# Altium schematic symbol library ARCOM_Capacitors.SchLib: 225 symbols (part 2 of 4)
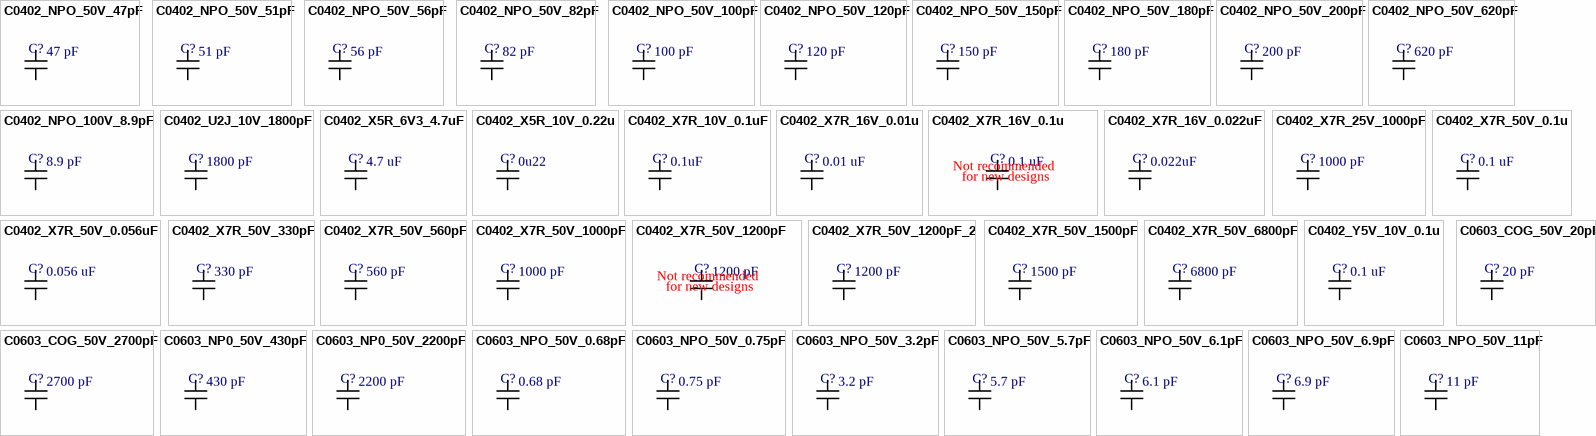
[diagram p6: symbols C0402_NPO_50V_47pF to C0603_NPO_50V_11pF]

## C0402_X7R_50V_1200pF
designator C?  value 1200 pF  (hidden comment: C0402_X7R_50V_1200pF)
Not recommended for new designs; Manufacturer: Murata Manufacturing co., ltd; Manufacturer P/N: GRM155R71H122KA01J; Part: 1.2nF,  X7R, 50V, 10%tol.; ComponentLink2URL: http://search.murata.co.jp/Ceramy/image/img/A01X/G101/ENG/GRM155R71C104KA88-01.pdf; ComponentLink2Description: Datasheet; ComponentLink1Description: Manufacturer; ComponentLink1URL: http://www.murata.com/; ComponentLink3Description: Datasheet2; ComponentLink3URL: http://www.farnell.com/datasheets/1747446.pdf; Family: Capacitor
footprint C0402_L (Chip Capacitor, Body 1.0x0.5mm, Height 0.6mm, IPC High Density)
footprint C0402_M (Chip Capacitor, Body 1.0x0.5mm, Height 0.6mm, IPC Low Density)
footprint C0402_N (Chip Capacitor, Body 1.0x0.5mm, Height 0.6mm, IPC Medium Density)
footprint C0402_L - Arcom (Chip Capacitor, Body 1.0x0.5mm, Height 0.6mm, IPC High Density)
pins: 1, 2
text: Not recommended; for new designs

## C0402_X7R_50V_1200pF_2
designator C?, comment value 1200 pF  (hidden comment: C0402_X7R_50V_1200pF)
Ceramic Capacitor 0402 Size; Manufacturer: Cal-chip; Manufacturer P/N: GMC04X7R122K50NT; Part: 1.2nF,  X7R, 50V, 10%tol.; ComponentLink2URL: http://www.calchipelectronics.com/pdf/gmc_series.pdf; ComponentLink2Description: Datasheet; ComponentLink1Description: Manufacturer; ComponentLink1URL: http://www.calchipelectronics.com/; ComponentLink3Description: Datasheet2; ComponentLink3URL: http://www.farnell.com/datasheets/1747446.pdf; Family: Capacitor
footprint C0402_L (Chip Capacitor, Body 1.0x0.5mm, Height 0.6mm, IPC High Density)
footprint C0402_M (Chip Capacitor, Body 1.0x0.5mm, Height 0.6mm, IPC Low Density)
footprint C0402_N (Chip Capacitor, Body 1.0x0.5mm, Height 0.6mm, IPC Medium Density)
footprint C0402_L - Arcom (Chip Capacitor, Body 1.0x0.5mm, Height 0.6mm, IPC High Density)
pins: 1, 2

## C0402_X7R_50V_1500pF
designator C?  value 1500 pF  (hidden comment: C0402_X7R_50V_1500pF)
Ceramic Capacitor 0402 Size; Manufacturer: Murata Manufacturing co., ltd; Manufacturer P/N: GRM155R71H152KA01J; Part: 1.5nF,  X7R, 50V, 10%tol.; ComponentLink2URL: http://search.murata.co.jp/Ceramy/image/img/A01X/G101/ENG/GRM155R71C104KA88-01.pdf; ComponentLink2Description: Datasheet; ComponentLink1Description: Manufacturer; ComponentLink1URL: http://www.murata.com/; ComponentLink3Description: Datasheet2; ComponentLink3URL: http://www.farnell.com/datasheets/1747446.pdf; Family: Capacitor
footprint C0402_L (Chip Capacitor, Body 1.0x0.5mm, Height 0.6mm, IPC High Density)
footprint C0402_M (Chip Capacitor, Body 1.0x0.5mm, Height 0.6mm, IPC Low Density)
footprint C0402_N (Chip Capacitor, Body 1.0x0.5mm, Height 0.6mm, IPC Medium Density)
footprint C0402_L - Arcom (Chip Capacitor, Body 1.0x0.5mm, Height 0.6mm, IPC High Density)
pins: 1, 2

## C0402_X7R_50V_6800pF
designator C?  value 6800 pF  (hidden comment: C0402_X7R_50V_6800pF)
Ceramic Capacitor 0402 Size; Manufacturer: Murata Manufacturing co., ltd; Manufacturer P/N: GRM1555C1H682GE01D; Part: 6.8nF,  NP0, 50V, 2%tol.; ComponentLink2URL: http://search.murata.co.jp/Ceramy/image/img/A01X/G101/ENG/GRM155R71C104KA88-01.pdf; ComponentLink2Description: Datasheet; ComponentLink1Description: Manufacturer; ComponentLink1URL: http://www.murata.com/; ComponentLink3Description: Datasheet2; ComponentLink3URL: http://www.farnell.com/datasheets/1747446.pdf; Family: Capacitor
footprint C0402_L (Chip Capacitor, Body 1.0x0.5mm, Height 0.6mm, IPC High Density)
footprint C0402_M (Chip Capacitor, Body 1.0x0.5mm, Height 0.6mm, IPC Low Density)
footprint C0402_N (Chip Capacitor, Body 1.0x0.5mm, Height 0.6mm, IPC Medium Density)
footprint C0402_L - Arcom (Chip Capacitor, Body 1.0x0.5mm, Height 0.6mm, IPC High Density)
pins: 1, 2

## C0402_Y5V_10V_0.1u
designator C?  value 0.1 uF  (hidden comment: C0402_Y5V_10V_0.1u)
Ceramic Capacitor 0402 Size; Manufacturer: JOHANSON DIELECTRICS; Manufacturer P/N: 100R07Y104KV4T; Part: 0.1 uF,  Y5V, 10V, 10%tol.; ComponentLink2URL: http://www.mouser.com/ds/2/611/JDI-Tanceram-516226.pdf; ComponentLink2Description: Datasheet; ComponentLink1Description: Manufacturer; ComponentLink1URL: http://www.johansondielectrics.com/; ComponentLink3Description: Datasheet2; Family: Capacitor
footprint C0402_L (Chip Capacitor, Body 1.0x0.5mm, Height 0.6mm, IPC High Density)
footprint C0402_M (Chip Capacitor, Body 1.0x0.5mm, Height 0.6mm, IPC Low Density)
footprint C0402_N (Chip Capacitor, Body 1.0x0.5mm, Height 0.6mm, IPC Medium Density)
footprint C0402_L - Arcom (Chip Capacitor, Body 1.0x0.5mm, Height 0.6mm, IPC High Density)
pins: 1, 2

## C0603_COG_50V_20pF
designator C?  value 20 pF  (hidden comment: C0603_COG_50V_20pF)
Ceramic Capacitor 0603 Size; Manufacturer: Murata; Manufacturer P/N: GRM1885C1H200GA01D; Part: 20 pF, COG, 50V, 2%tol.; ComponentLink2URL: http://www.murata.com/~/media/webrenewal/support/library/catalog/products/capacitor/mlcc/c02e.ashx; ComponentLink2Description: Datasheet; ComponentLink1Description: Manufacturer; ComponentLink1URL: http://www.murata.com/; ComponentLink3Description: Datasheet2; Family: Capacitor
footprint C0603_L (Chip Capacitor, Body 1.6x0.8mm, Height 1.0mm, IPC High Density)
footprint C0603_M (Chip Capacitor, Body 1.6x0.8mm, Height 1.0mm, IPC Low Density)
footprint C0603_N (Chip Capacitor, Body 1.6x0.8mm, Height 1.0mm, IPC Medium Density)
pins: 1, 2

## C0603_COG_50V_2700pF
designator C?  value 2700 pF  (hidden comment: C0603_COG_50V_2700pF)
Ceramic Capacitor 0603 Size; Manufacturer: Murata; Manufacturer P/N: GRM1885C1H272JA01D; Part: 2700 pF, COG, 50V, 5%tol.; ComponentLink2URL: http://www.murata.com/~/media/webrenewal/support/library/catalog/products/capacitor/mlcc/c02e.ashx; ComponentLink2Description: Datasheet; ComponentLink1Description: Manufacturer; ComponentLink1URL: http://www.murata.com/; ComponentLink3Description: Datasheet2; Family: Capacitor
footprint C0603_L (Chip Capacitor, Body 1.6x0.8mm, Height 1.0mm, IPC High Density)
footprint C0603_M (Chip Capacitor, Body 1.6x0.8mm, Height 1.0mm, IPC Low Density)
footprint C0603_N (Chip Capacitor, Body 1.6x0.8mm, Height 1.0mm, IPC Medium Density)
pins: 1, 2

## C0603_NP0_50V_430pF
designator C?  value 430 pF  (hidden comment: C0603_NP0_50V_430pF)
Ceramic Capacitor 0603 Size; Manufacturer: Kemet; Manufacturer P/N: C0603C431J5GACTU; Part: 430 pF, NPO, 50V, 5%tol.; ComponentLink2Description: Datasheet; ComponentLink1Description: Manufacturer; ComponentLink3Description: Datasheet2; Family: Capacitor
footprint C0603_L (Chip Capacitor, Body 1.6x0.8mm, Height 1.0mm, IPC High Density)
footprint C0603_M (Chip Capacitor, Body 1.6x0.8mm, Height 1.0mm, IPC Low Density)
footprint C0603_N (Chip Capacitor, Body 1.6x0.8mm, Height 1.0mm, IPC Medium Density)
pins: 1, 2

## C0603_NP0_50V_2200pF
designator C?  value 2200 pF  (hidden comment: C0603_NP0_50V_2200pF)
Ceramic Capacitor 0603 Size; Manufacturer: Murata; Manufacturer P/N: GRM1885C1H222JA01D; Part: 2200 pF, NP0, 50V, 5%tol.; ComponentLink2URL: http://www.murata.com/~/media/webrenewal/support/library/catalog/products/capacitor/mlcc/c02e.ashx; ComponentLink2Description: Datasheet; ComponentLink1Description: Manufacturer; ComponentLink1URL: http://www.murata.com/; ComponentLink3Description: Datasheet2; Family: Capacitor
footprint C0603_L (Chip Capacitor, Body 1.6x0.8mm, Height 1.0mm, IPC High Density)
footprint C0603_M (Chip Capacitor, Body 1.6x0.8mm, Height 1.0mm, IPC Low Density)
footprint C0603_N (Chip Capacitor, Body 1.6x0.8mm, Height 1.0mm, IPC Medium Density)
pins: 1, 2

## C0603_NPO_50V_0.68pF
designator C?  value 0.68 pF  (hidden comment: C0603_NPO_50V_0.68pF)
Ceramic Capacitor 0603 Size 0.1pF tol.; Manufacturer: Yageo; Manufacturer P/N: CC0603BRNPO9BNR68; Part: 0.68 pF, NPO, 50V, 0.1pFtol.; ComponentLink2Description: Datasheet; ComponentLink1Description: Manufacturer; ComponentLink1URL: http://www.yageo.com/; ComponentLink3Description: Datasheet2; Family: Capacitor
footprint C0603_L (Chip Capacitor, Body 1.6x0.8mm, Height 1.0mm, IPC High Density)
footprint C0603_M (Chip Capacitor, Body 1.6x0.8mm, Height 1.0mm, IPC Low Density)
footprint C0603_N (Chip Capacitor, Body 1.6x0.8mm, Height 1.0mm, IPC Medium Density)
pins: 1, 2

## C0603_NPO_50V_0.75pF
designator C?  value 0.75 pF  (hidden comment: C0603_NPO_50V_0.75pF)
Ceramic Capacitor 0603 Size 0.1pF tol.; Manufacturer: Yageo; Manufacturer P/N: CC0603BRNPO9BNR68; Part: 0.75 pF, NPO, 50V, 0.1pFtol.; ComponentLink2Description: Datasheet; ComponentLink1Description: Manufacturer; ComponentLink1URL: http://www.yageo.com/; ComponentLink3Description: Datasheet2; Family: Capacitor
footprint C0603_L (Chip Capacitor, Body 1.6x0.8mm, Height 1.0mm, IPC High Density)
footprint C0603_M (Chip Capacitor, Body 1.6x0.8mm, Height 1.0mm, IPC Low Density)
footprint C0603_N (Chip Capacitor, Body 1.6x0.8mm, Height 1.0mm, IPC Medium Density)
pins: 1, 2

## C0603_NPO_50V_3.2pF
designator C?  value 3.2 pF  (hidden comment: C0603_NPO_50V_3.2pF)
Ceramic Capacitor 0603 Size; Manufacturer: Kemet; Manufacturer P/N: CBR06C329B5GAC; Part: 3.2 pF, NPO, 50V, 0.1pFtol.; ComponentLink2Description: Datasheet; ComponentLink1Description: Manufacturer; ComponentLink3Description: Datasheet2; Family: Capacitor
footprint C0603_L (Chip Capacitor, Body 1.6x0.8mm, Height 1.0mm, IPC High Density)
footprint C0603_M (Chip Capacitor, Body 1.6x0.8mm, Height 1.0mm, IPC Low Density)
footprint C0603_N (Chip Capacitor, Body 1.6x0.8mm, Height 1.0mm, IPC Medium Density)
pins: 1, 2

## C0603_NPO_50V_5.7pF
designator C?  value 5.7 pF  (hidden comment: C0603_NPO_50V_5.7pF)
Ceramic Capacitor 0603 Size; Manufacturer: Murata; Manufacturer P/N: GCM1885C1H5R7BA16D; Part: 5.7 pF, NPO, 50V, 0.1pFtol.; ComponentLink2URL: https://ru.mouser.com/datasheet/2/281/murata_03122018_GCM_Series-1310150.pdf; ComponentLink2Description: Datasheet; ComponentLink1Description: Manufacturer; ComponentLink3Description: Datasheet2; Family: Capacitor
footprint C0603_L (Chip Capacitor, Body 1.6x0.8mm, Height 1.0mm, IPC High Density)
footprint C0603_M (Chip Capacitor, Body 1.6x0.8mm, Height 1.0mm, IPC Low Density)
footprint C0603_N (Chip Capacitor, Body 1.6x0.8mm, Height 1.0mm, IPC Medium Density)
pins: 1, 2

## C0603_NPO_50V_6.1pF
designator C?  value 6.1 pF  (hidden comment: C0603_NPO_50V_6.1pF)
Ceramic Capacitor 0603 Size; Manufacturer: Murata; Manufacturer P/N: GCM1885C1H6R1DA16D; Part: 6.1 pF, NPO, 50V, 0.5pFtol.; ComponentLink2URL: https://ru.mouser.com/datasheet/2/281/murata_03122018_GCM_Series-1310150.pdf; ComponentLink2Description: Datasheet; ComponentLink1Description: Manufacturer; ComponentLink3Description: Datasheet2; Family: Capacitor
footprint C0603_L (Chip Capacitor, Body 1.6x0.8mm, Height 1.0mm, IPC High Density)
footprint C0603_M (Chip Capacitor, Body 1.6x0.8mm, Height 1.0mm, IPC Low Density)
footprint C0603_N (Chip Capacitor, Body 1.6x0.8mm, Height 1.0mm, IPC Medium Density)
pins: 1, 2

## C0603_NPO_50V_6.9pF
designator C?  value 6.9 pF  (hidden comment: C0603_NPO_50V_6.9pF)
GCM1885 Ceramic Capacitor 0603 Size; Manufacturer: Murata; Manufacturer P/N: GCM1885C1H6R9DA16D; Part: 6.9 pF, NPO, 50V, 0.5pFtol.; ComponentLink2URL: https://ru.mouser.com/datasheet/2/281/murata_03122018_GCM_Series-1310150.pdf; ComponentLink2Description: Datasheet; ComponentLink1Description: Manufacturer; ComponentLink3Description: Datasheet2; Family: Capacitor
footprint C0603_L (Chip Capacitor, Body 1.6x0.8mm, Height 1.0mm, IPC High Density)
footprint C0603_M (Chip Capacitor, Body 1.6x0.8mm, Height 1.0mm, IPC Low Density)
footprint C0603_N (Chip Capacitor, Body 1.6x0.8mm, Height 1.0mm, IPC Medium Density)
pins: 1, 2

## C0603_NPO_50V_11pF
designator C?  value 11 pF  (hidden comment: C0603_NPO_50V_11pF)
Ceramic Capacitor 0603 Size; Manufacturer: Murata; Manufacturer P/N: GCM1885C1H110JA16D; Part: 11 pF, NPO, 50V, 5%tol.; ComponentLink2URL: https://ru.mouser.com/datasheet/2/281/murata_03122018_GCM_Series-1310150.pdf; ComponentLink2Description: Datasheet; ComponentLink1Description: Manufacturer; ComponentLink3Description: Datasheet2; Family: Capacitor
footprint C0603_L (Chip Capacitor, Body 1.6x0.8mm, Height 1.0mm, IPC High Density)
footprint C0603_M (Chip Capacitor, Body 1.6x0.8mm, Height 1.0mm, IPC Low Density)
footprint C0603_N (Chip Capacitor, Body 1.6x0.8mm, Height 1.0mm, IPC Medium Density)
pins: 1, 2

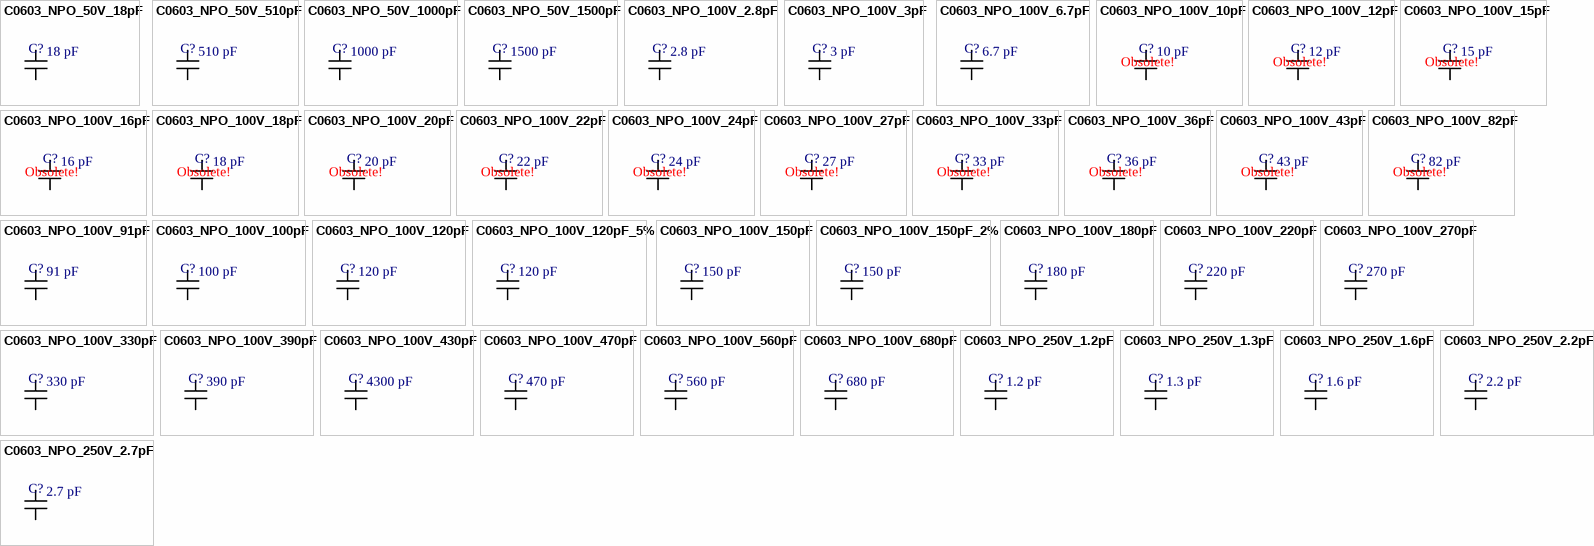
[diagram p2: symbols C0603_NPO_50V_18pF to C0603_NPO_250V_2.7pF]

## C0603_NPO_50V_18pF
designator C?  value 18 pF  (hidden comment: C0603_NPO_50V_18pF)
Ceramic capacitor 0603; Manufacturer: Kemet; Manufacturer P/N: CBR06C180J5GACAUTO; Part: 18 pF, NPO, 50V, 0.05pF tol.; ComponentLink2Description: Datasheet; ComponentLink1Description: Manufacturer; ComponentLink3Description: Datasheet2; Family: Capacitor
footprint C0603_L (Chip Capacitor, Body 1.6x0.8mm, Height 1.0mm, IPC High Density)
footprint C0603_M (Chip Capacitor, Body 1.6x0.8mm, Height 1.0mm, IPC Low Density)
footprint C0603_N (Chip Capacitor, Body 1.6x0.8mm, Height 1.0mm, IPC Medium Density)
pins: 1, 2

## C0603_NPO_50V_510pF
designator C?  value 510 pF  (hidden comment: C0603_NPO_50V_510pF)
Ceramic Capacitor 0603 Size; Manufacturer: JOHANSON DIELECTRICS; Manufacturer P/N: 500R14N511GV4T; Part: 510 pF, NPO, 50V, 2%tol.; ComponentLink2URL: http://www.mouser.com/ds/2/611/JDI-Tanceram-516226.pdf; ComponentLink2Description: Datasheet; ComponentLink1Description: Manufacturer; ComponentLink1URL: http://www.johansondielectrics.com/; ComponentLink3Description: Datasheet2; Family: Capacitor
footprint C0603_L (Chip Capacitor, Body 1.6x0.8mm, Height 1.0mm, IPC High Density)
footprint C0603_M (Chip Capacitor, Body 1.6x0.8mm, Height 1.0mm, IPC Low Density)
footprint C0603_N (Chip Capacitor, Body 1.6x0.8mm, Height 1.0mm, IPC Medium Density)
pins: 1, 2

## C0603_NPO_50V_1000pF
designator C?  value 1000 pF  (hidden comment: C0603_NPO_50V_1000pF)
Ceramic Capacitor 0603 Size; Manufacturer: JOHANSON DIELECTRICS; Manufacturer P/N: 500R14N102GV4T; Part: 1000 pF, NPO, 50V, 2%tol.; ComponentLink2URL: http://www.mouser.com/ds/2/611/JDI-Tanceram-516226.pdf; ComponentLink2Description: Datasheet; ComponentLink1Description: Manufacturer; ComponentLink1URL: http://www.johansondielectrics.com/; ComponentLink3Description: Datasheet2; Family: Capacitor
footprint C0603_L (Chip Capacitor, Body 1.6x0.8mm, Height 1.0mm, IPC High Density)
footprint C0603_M (Chip Capacitor, Body 1.6x0.8mm, Height 1.0mm, IPC Low Density)
footprint C0603_N (Chip Capacitor, Body 1.6x0.8mm, Height 1.0mm, IPC Medium Density)
pins: 1, 2

## C0603_NPO_50V_1500pF
designator C?  value 1500 pF  (hidden comment: C0603_NPO_50V_1500pF)
Ceramic Capacitor 0603 Size; Manufacturer: JOHANSON DIELECTRICS; Manufacturer P/N: 500R14N152GV4T; Part: 1500 pF, NPO, 50V, 2%tol.; ComponentLink2URL: http://www.mouser.com/ds/2/611/JDI-Tanceram-516226.pdf; ComponentLink2Description: Datasheet; ComponentLink1Description: Manufacturer; ComponentLink1URL: http://www.johansondielectrics.com/; ComponentLink3Description: Datasheet2; Family: Capacitor
footprint C0603_L (Chip Capacitor, Body 1.6x0.8mm, Height 1.0mm, IPC High Density)
footprint C0603_M (Chip Capacitor, Body 1.6x0.8mm, Height 1.0mm, IPC Low Density)
footprint C0603_N (Chip Capacitor, Body 1.6x0.8mm, Height 1.0mm, IPC Medium Density)
pins: 1, 2

## C0603_NPO_100V_2.8pF
designator C?  value 2.8 pF  (hidden comment: C0603_NPO_100V_2.8pF)
Ceramic Capacitor 0603 Size; Manufacturer: Murata; Manufacturer P/N: GCM1885C2A2R8BA16D; Part: 2.8 pF, NPO, 100V, +/-0.1pFtol.; ComponentLink2URL: https://ru.mouser.com/datasheet/2/281/murata_03122018_GCM_Series-1310150.pdf; ComponentLink2Description: Datasheet; ComponentLink1Description: Manufacturer; ComponentLink3Description: Datasheet2; Family: Capacitor
footprint C0603_L (Chip Capacitor, Body 1.6x0.8mm, Height 1.0mm, IPC High Density)
footprint C0603_M (Chip Capacitor, Body 1.6x0.8mm, Height 1.0mm, IPC Low Density)
footprint C0603_N (Chip Capacitor, Body 1.6x0.8mm, Height 1.0mm, IPC Medium Density)
pins: 1, 2

## C0603_NPO_100V_3pF
designator C?  value 3 pF  (hidden comment: C0603_NPO_100V_3pF)
Ceramic Capacitor 0603 Size; Manufacturer: JOHANSON DIELECTRICS; Manufacturer P/N: 101R14N3R0BV4T; Part: 3 pF, NPO, 100V, +/-0.1pFtol.; ComponentLink2URL: http://www.mouser.com/ds/2/611/JDI-Tanceram-516226.pdf; ComponentLink2Description: Datasheet; ComponentLink1Description: Manufacturer; ComponentLink1URL: http://www.johansondielectrics.com/; ComponentLink3Description: Datasheet2; Family: Capacitor
footprint C0603_L (Chip Capacitor, Body 1.6x0.8mm, Height 1.0mm, IPC High Density)
footprint C0603_M (Chip Capacitor, Body 1.6x0.8mm, Height 1.0mm, IPC Low Density)
footprint C0603_N (Chip Capacitor, Body 1.6x0.8mm, Height 1.0mm, IPC Medium Density)
pins: 1, 2

## C0603_NPO_100V_6.7pF
designator C?  value 6.7 pF  (hidden comment: C0603_NPO_100V_6.7pF)
GCM1885 Ceramic Capacitor 0603 Size; Manufacturer: Murata; Manufacturer P/N: GCM1885C2A6R7DA16D; Part: 6.7 pF, NPO, 100V, 0.5pFtol.; ComponentLink2URL: https://ru.mouser.com/datasheet/2/281/murata_03122018_GCM_Series-1310150.pdf; ComponentLink2Description: Datasheet; ComponentLink1Description: Manufacturer; ComponentLink3Description: Datasheet2; Family: Capacitor
footprint C0603_L (Chip Capacitor, Body 1.6x0.8mm, Height 1.0mm, IPC High Density)
footprint C0603_M (Chip Capacitor, Body 1.6x0.8mm, Height 1.0mm, IPC Low Density)
footprint C0603_N (Chip Capacitor, Body 1.6x0.8mm, Height 1.0mm, IPC Medium Density)
pins: 1, 2

## C0603_NPO_100V_10pF
designator C?  value 10 pF  (hidden comment: C0603_NPO_100V_10pF)
Obsolete!; Manufacturer: JOHANSON DIELECTRICS; Manufacturer P/N: 101R14N100GV4T; Part: 10 pF, NPO, 100V, 2%tol.; ComponentLink2URL: http://www.mouser.com/ds/2/611/JDI-Tanceram-516226.pdf; ComponentLink2Description: Datasheet; ComponentLink1Description: Manufacturer; ComponentLink1URL: http://www.johansondielectrics.com/; ComponentLink3Description: Datasheet2; Family: Capacitor
footprint C0603_L (Chip Capacitor, Body 1.6x0.8mm, Height 1.0mm, IPC High Density)
footprint C0603_M (Chip Capacitor, Body 1.6x0.8mm, Height 1.0mm, IPC Low Density)
footprint C0603_N (Chip Capacitor, Body 1.6x0.8mm, Height 1.0mm, IPC Medium Density)
pins: 1, 2

## C0603_NPO_100V_12pF
designator C?  value 12 pF  (hidden comment: C0603_NPO_100V_12pF)
Obsolete!; Manufacturer: JOHANSON DIELECTRICS; Manufacturer P/N: 101R14N120GV4T; Part: 12 pF, NPO, 100V, 2%tol.; ComponentLink2URL: http://www.mouser.com/ds/2/611/JDI-Tanceram-516226.pdf; ComponentLink2Description: Datasheet; ComponentLink1Description: Manufacturer; ComponentLink1URL: http://www.johansondielectrics.com/; ComponentLink3Description: Datasheet2; Family: Capacitor
footprint C0603_L (Chip Capacitor, Body 1.6x0.8mm, Height 1.0mm, IPC High Density)
footprint C0603_M (Chip Capacitor, Body 1.6x0.8mm, Height 1.0mm, IPC Low Density)
footprint C0603_N (Chip Capacitor, Body 1.6x0.8mm, Height 1.0mm, IPC Medium Density)
pins: 1, 2

## C0603_NPO_100V_15pF
designator C?  value 15 pF  (hidden comment: C0603_NPO_100V_15pF)
Obsolete!; Manufacturer: JOHANSON DIELECTRICS; Manufacturer P/N: 101R14N150GV4T; Part: 15 pF, NPO, 100V, 2%tol.; ComponentLink2URL: http://www.mouser.com/ds/2/611/JDI-Tanceram-516226.pdf; ComponentLink2Description: Datasheet; ComponentLink1Description: Manufacturer; ComponentLink1URL: http://www.johansondielectrics.com/; ComponentLink3Description: Datasheet2; Family: Capacitor
footprint C0603_L (Chip Capacitor, Body 1.6x0.8mm, Height 1.0mm, IPC High Density)
footprint C0603_M (Chip Capacitor, Body 1.6x0.8mm, Height 1.0mm, IPC Low Density)
footprint C0603_N (Chip Capacitor, Body 1.6x0.8mm, Height 1.0mm, IPC Medium Density)
pins: 1, 2

## C0603_NPO_100V_16pF
designator C?  value 16 pF  (hidden comment: C0603_NPO_100V_16pF)
Obsolete!; Manufacturer: JOHANSON DIELECTRICS; Manufacturer P/N: 101R14N160GV4T; Part: 16 pF, NPO, 100V, 2%tol.; ComponentLink2URL: http://www.mouser.com/ds/2/611/JDI-Tanceram-516226.pdf; ComponentLink2Description: Datasheet; ComponentLink1Description: Manufacturer; ComponentLink1URL: http://www.johansondielectrics.com/; ComponentLink3Description: Datasheet2; Family: Capacitor
footprint C0603_L (Chip Capacitor, Body 1.6x0.8mm, Height 1.0mm, IPC High Density)
footprint C0603_M (Chip Capacitor, Body 1.6x0.8mm, Height 1.0mm, IPC Low Density)
footprint C0603_N (Chip Capacitor, Body 1.6x0.8mm, Height 1.0mm, IPC Medium Density)
pins: 1, 2

## C0603_NPO_100V_18pF
designator C?  value 18 pF  (hidden comment: C0603_NPO_100V_18pF)
Obsolete!; Manufacturer: JOHANSON DIELECTRICS; Manufacturer P/N: 101R14N180GV4T; Part: 18 pF, NPO, 100V, 2%tol.; ComponentLink2URL: http://www.mouser.com/ds/2/611/JDI-Tanceram-516226.pdf; ComponentLink2Description: Datasheet; ComponentLink1Description: Manufacturer; ComponentLink1URL: http://www.johansondielectrics.com/; ComponentLink3Description: Datasheet2; Family: Capacitor
footprint C0603_L (Chip Capacitor, Body 1.6x0.8mm, Height 1.0mm, IPC High Density)
footprint C0603_M (Chip Capacitor, Body 1.6x0.8mm, Height 1.0mm, IPC Low Density)
footprint C0603_N (Chip Capacitor, Body 1.6x0.8mm, Height 1.0mm, IPC Medium Density)
pins: 1, 2

## C0603_NPO_100V_20pF
designator C?  value 20 pF  (hidden comment: C0603_NPO_100V_20pF)
Obsolete!; Manufacturer: JOHANSON DIELECTRICS; Manufacturer P/N: 101R14N200GV4T; Part: 20 pF, NPO, 100V, 2%tol.; ComponentLink2URL: http://www.mouser.com/ds/2/611/JDI-Tanceram-516226.pdf; ComponentLink2Description: Datasheet; ComponentLink1Description: Manufacturer; ComponentLink1URL: http://www.johansondielectrics.com/; ComponentLink3Description: Datasheet2; Family: Capacitor
footprint C0603_L (Chip Capacitor, Body 1.6x0.8mm, Height 1.0mm, IPC High Density)
footprint C0603_M (Chip Capacitor, Body 1.6x0.8mm, Height 1.0mm, IPC Low Density)
footprint C0603_N (Chip Capacitor, Body 1.6x0.8mm, Height 1.0mm, IPC Medium Density)
pins: 1, 2

## C0603_NPO_100V_22pF
designator C?  value 22 pF  (hidden comment: C0603_NPO_100V_22pF)
Obsolete!; Manufacturer: JOHANSON DIELECTRICS; Manufacturer P/N: 101R14N220GV4T; Part: 22 pF, NPO, 100V, 2%tol.; ComponentLink2URL: http://www.mouser.com/ds/2/611/JDI-Tanceram-516226.pdf; ComponentLink2Description: Datasheet; ComponentLink1Description: Manufacturer; ComponentLink1URL: http://www.johansondielectrics.com/; ComponentLink3Description: Datasheet2; Family: Capacitor
footprint C0603_L (Chip Capacitor, Body 1.6x0.8mm, Height 1.0mm, IPC High Density)
footprint C0603_M (Chip Capacitor, Body 1.6x0.8mm, Height 1.0mm, IPC Low Density)
footprint C0603_N (Chip Capacitor, Body 1.6x0.8mm, Height 1.0mm, IPC Medium Density)
pins: 1, 2

## C0603_NPO_100V_24pF
designator C?  value 24 pF  (hidden comment: C0603_NPO_100V_24pF)
Obsolete!; Manufacturer: JOHANSON DIELECTRICS; Manufacturer P/N: 101R14N240GV4T; Part: 24 pF, NPO, 100V, 2%tol.; ComponentLink2URL: http://www.mouser.com/ds/2/611/JDI-Tanceram-516226.pdf; ComponentLink2Description: Datasheet; ComponentLink1Description: Manufacturer; ComponentLink1URL: http://www.johansondielectrics.com/; ComponentLink3Description: Datasheet2; Family: Capacitor
footprint C0603_L (Chip Capacitor, Body 1.6x0.8mm, Height 1.0mm, IPC High Density)
footprint C0603_M (Chip Capacitor, Body 1.6x0.8mm, Height 1.0mm, IPC Low Density)
footprint C0603_N (Chip Capacitor, Body 1.6x0.8mm, Height 1.0mm, IPC Medium Density)
pins: 1, 2

## C0603_NPO_100V_27pF
designator C?  value 27 pF  (hidden comment: C0603_NPO_100V_27pF)
Obsolete!; Manufacturer: JOHANSON DIELECTRICS; Manufacturer P/N: 101R14N270GV4T; Part: 27 pF, NPO, 100V, 2%tol.; ComponentLink2URL: http://www.mouser.com/ds/2/611/JDI-Tanceram-516226.pdf; ComponentLink2Description: Datasheet; ComponentLink1Description: Manufacturer; ComponentLink1URL: http://www.johansondielectrics.com/; ComponentLink3Description: Datasheet2; Family: Capacitor
footprint C0603_L (Chip Capacitor, Body 1.6x0.8mm, Height 1.0mm, IPC High Density)
footprint C0603_M (Chip Capacitor, Body 1.6x0.8mm, Height 1.0mm, IPC Low Density)
footprint C0603_N (Chip Capacitor, Body 1.6x0.8mm, Height 1.0mm, IPC Medium Density)
pins: 1, 2

## C0603_NPO_100V_33pF
designator C?  value 33 pF  (hidden comment: C0603_NPO_100V_33pF)
Obsolete!; Manufacturer: JOHANSON DIELECTRICS; Manufacturer P/N: 101R14N330GV4T; Part: 33 pF, NPO, 100V, 2%tol.; ComponentLink2URL: http://www.mouser.com/ds/2/611/JDI-Tanceram-516226.pdf; ComponentLink2Description: Datasheet; ComponentLink1Description: Manufacturer; ComponentLink1URL: http://www.johansondielectrics.com/; ComponentLink3Description: Datasheet2; Family: Capacitor
footprint C0603_L (Chip Capacitor, Body 1.6x0.8mm, Height 1.0mm, IPC High Density)
footprint C0603_M (Chip Capacitor, Body 1.6x0.8mm, Height 1.0mm, IPC Low Density)
footprint C0603_N (Chip Capacitor, Body 1.6x0.8mm, Height 1.0mm, IPC Medium Density)
pins: 1, 2

## C0603_NPO_100V_36pF
designator C?  value 36 pF  (hidden comment: C0603_NPO_100V_36pF)
Obsolete!; Manufacturer: JOHANSON DIELECTRICS; Manufacturer P/N: 101R14N360GV4T; Part: 36 pF, NPO, 100V, 2%tol.; ComponentLink2URL: http://www.mouser.com/ds/2/611/JDI-Tanceram-516226.pdf; ComponentLink2Description: Datasheet; ComponentLink1Description: Manufacturer; ComponentLink1URL: http://www.johansondielectrics.com/; ComponentLink3Description: Datasheet2; Family: Capacitor
footprint C0603_L (Chip Capacitor, Body 1.6x0.8mm, Height 1.0mm, IPC High Density)
footprint C0603_M (Chip Capacitor, Body 1.6x0.8mm, Height 1.0mm, IPC Low Density)
footprint C0603_N (Chip Capacitor, Body 1.6x0.8mm, Height 1.0mm, IPC Medium Density)
pins: 1, 2

## C0603_NPO_100V_43pF
designator C?  value 43 pF  (hidden comment: C0603_NPO_100V_43pF)
Obsolete!; Manufacturer: Murata; Manufacturer P/N: GCM1885C2A430JA16D; Part: 43 pF, NPO, 100V, 2%tol.; ComponentLink2URL: https://ru.mouser.com/datasheet/2/281/murata_03122018_GCM_Series-1310150.pdf; ComponentLink2Description: Datasheet; ComponentLink1Description: Manufacturer; ComponentLink1URL: https://www.murata.com/; ComponentLink3Description: Datasheet2; Family: Capacitor
footprint C0603_L (Chip Capacitor, Body 1.6x0.8mm, Height 1.0mm, IPC High Density)
footprint C0603_M (Chip Capacitor, Body 1.6x0.8mm, Height 1.0mm, IPC Low Density)
footprint C0603_N (Chip Capacitor, Body 1.6x0.8mm, Height 1.0mm, IPC Medium Density)
pins: 1, 2

## C0603_NPO_100V_82pF
designator C?  value 82 pF  (hidden comment: C0603_NPO_100V_82pF)
Obsolete!; Manufacturer: JOHANSON DIELECTRICS; Manufacturer P/N: 101R14N820GV4T; Part: 82 pF, NPO, 100V, 2%tol.; ComponentLink2URL: http://www.mouser.com/ds/2/611/JDI-Tanceram-516226.pdf; ComponentLink2Description: Datasheet; ComponentLink1Description: Manufacturer; ComponentLink1URL: http://www.johansondielectrics.com/; ComponentLink3Description: Datasheet2; Family: Capacitor
footprint C0603_L (Chip Capacitor, Body 1.6x0.8mm, Height 1.0mm, IPC High Density)
footprint C0603_M (Chip Capacitor, Body 1.6x0.8mm, Height 1.0mm, IPC Low Density)
footprint C0603_N (Chip Capacitor, Body 1.6x0.8mm, Height 1.0mm, IPC Medium Density)
pins: 1, 2

## C0603_NPO_100V_91pF
designator C?  value 91 pF  (hidden comment: C0603_NPO_100V_91pF)
Ceramic Capacitor 0603 Size; Manufacturer: JOHANSON DIELECTRICS; Manufacturer P/N: 101R14N910GV4T; Part: 91 pF, NPO, 100V, 2%tol.; ComponentLink2URL: http://www.mouser.com/ds/2/611/JDI-Tanceram-516226.pdf; ComponentLink2Description: Datasheet; ComponentLink1Description: Manufacturer; ComponentLink1URL: http://www.johansondielectrics.com/; ComponentLink3Description: Datasheet2; Family: Capacitor
footprint C0603_L (Chip Capacitor, Body 1.6x0.8mm, Height 1.0mm, IPC High Density)
footprint C0603_M (Chip Capacitor, Body 1.6x0.8mm, Height 1.0mm, IPC Low Density)
footprint C0603_N (Chip Capacitor, Body 1.6x0.8mm, Height 1.0mm, IPC Medium Density)
pins: 1, 2

## C0603_NPO_100V_100pF
designator C?  value 100 pF  (hidden comment: C0603_NPO_100V_100pF)
Ceramic Capacitor 0603 Size; Manufacturer: JOHANSON DIELECTRICS; Manufacturer P/N: 101R14N101GV4T; Part: 100 pF, NPO, 100V, 2%tol.; ComponentLink2URL: http://www.mouser.com/ds/2/611/JDI-Tanceram-516226.pdf; ComponentLink2Description: Datasheet; ComponentLink1Description: Manufacturer; ComponentLink1URL: http://www.johansondielectrics.com/; ComponentLink3Description: Datasheet2; Family: Capacitor
footprint C0603_L (Chip Capacitor, Body 1.6x0.8mm, Height 1.0mm, IPC High Density)
footprint C0603_M (Chip Capacitor, Body 1.6x0.8mm, Height 1.0mm, IPC Low Density)
footprint C0603_N (Chip Capacitor, Body 1.6x0.8mm, Height 1.0mm, IPC Medium Density)
pins: 1, 2

## C0603_NPO_100V_120pF
designator C?  value 120 pF  (hidden comment: C0603_NPO_100V_120pF)
Ceramic Capacitor 0603 Size; Manufacturer: JOHANSON DIELECTRICS; Manufacturer P/N: 101R14N121GV4T; Part: 120 pF, NPO, 100V, 2%tol.; ComponentLink2URL: http://www.mouser.com/ds/2/611/JDI-Tanceram-516226.pdf; ComponentLink2Description: Datasheet; ComponentLink1Description: Manufacturer; ComponentLink1URL: http://www.johansondielectrics.com/; ComponentLink3Description: Datasheet2; Family: Capacitor
footprint C0603_L (Chip Capacitor, Body 1.6x0.8mm, Height 1.0mm, IPC High Density)
footprint C0603_M (Chip Capacitor, Body 1.6x0.8mm, Height 1.0mm, IPC Low Density)
footprint C0603_N (Chip Capacitor, Body 1.6x0.8mm, Height 1.0mm, IPC Medium Density)
pins: 1, 2

## C0603_NPO_100V_120pF_5%
designator C?, comment value 120 pF  (hidden comment: C0603_NPO_100V_120pF)
Kemet Ceramic Capacitor 0603 Size; Manufacturer P/N: C0603C121JAGACAUTO; Part: 120 pF, NPO, 250V, 5%tol.; Manufacturer: Kemet; ComponentLink2Description: Datasheet; ComponentLink1Description: Manufacturer; ComponentLink3Description: Datasheet2; Family: Capacitor
footprint C0603_L (Chip Capacitor, Body 1.6x0.8mm, Height 1.0mm, IPC High Density)
footprint C0603_M (Chip Capacitor, Body 1.6x0.8mm, Height 1.0mm, IPC Low Density)
footprint C0603_N (Chip Capacitor, Body 1.6x0.8mm, Height 1.0mm, IPC Medium Density)
pins: 1, 2

## C0603_NPO_100V_150pF
designator C?  value 150 pF  (hidden comment: C0603_NPO_100V_150pF)
Ceramic Capacitor 0603 Size; Manufacturer: JOHANSON DIELECTRICS; Manufacturer P/N: 101R14N151GV4T; Part: 150 pF, NPO, 100V, 2%tol.; ComponentLink2URL: http://www.mouser.com/ds/2/611/JDI-Tanceram-516226.pdf; ComponentLink2Description: Datasheet; ComponentLink1Description: Manufacturer; ComponentLink1URL: http://www.johansondielectrics.com/; ComponentLink3Description: Datasheet2; Family: Capacitor
footprint C0603_L (Chip Capacitor, Body 1.6x0.8mm, Height 1.0mm, IPC High Density)
footprint C0603_M (Chip Capacitor, Body 1.6x0.8mm, Height 1.0mm, IPC Low Density)
footprint C0603_N (Chip Capacitor, Body 1.6x0.8mm, Height 1.0mm, IPC Medium Density)
pins: 1, 2

## C0603_NPO_100V_150pF_2%
designator C?, comment value 150 pF  (hidden comment: C0603_NPO_100V_150pF)
Kemet Ceramic Capacitor 0603 Size; Manufacturer P/N: C0603C151G1GACTU; Part: 150 pF, NPO, 100V, 2%tol.; Manufacturer: Kemet; ComponentLink2Description: Datasheet; ComponentLink1Description: Manufacturer; ComponentLink3Description: Datasheet2; Family: Capacitor
footprint C0603_L (Chip Capacitor, Body 1.6x0.8mm, Height 1.0mm, IPC High Density)
footprint C0603_M (Chip Capacitor, Body 1.6x0.8mm, Height 1.0mm, IPC Low Density)
footprint C0603_N (Chip Capacitor, Body 1.6x0.8mm, Height 1.0mm, IPC Medium Density)
pins: 1, 2

## C0603_NPO_100V_180pF
designator C?  value 180 pF  (hidden comment: C0603_NPO_100V_180pF)
Ceramic Capacitor 0603 Size; Manufacturer: JOHANSON DIELECTRICS; Manufacturer P/N: 101R14N181GV4T; Part: 180 pF, NPO, 100V, 2%tol.; ComponentLink2URL: http://www.mouser.com/ds/2/611/JDI-Tanceram-516226.pdf; ComponentLink2Description: Datasheet; ComponentLink1Description: Manufacturer; ComponentLink1URL: http://www.johansondielectrics.com/; ComponentLink3Description: Datasheet2; Family: Capacitor
footprint C0603_L (Chip Capacitor, Body 1.6x0.8mm, Height 1.0mm, IPC High Density)
footprint C0603_M (Chip Capacitor, Body 1.6x0.8mm, Height 1.0mm, IPC Low Density)
footprint C0603_N (Chip Capacitor, Body 1.6x0.8mm, Height 1.0mm, IPC Medium Density)
pins: 1, 2

## C0603_NPO_100V_220pF
designator C?  value 220 pF  (hidden comment: C0603_NPO_100V_220pF)
Ceramic Capacitor 0603 Size; Manufacturer: JOHANSON DIELECTRICS; Manufacturer P/N: 101R14N221GV4T; Part: 220 pF, NPO, 100V, 2%tol.; ComponentLink2URL: http://www.mouser.com/ds/2/611/JDI-Surface-Mount-516221.pdf; ComponentLink2Description: Datasheet; ComponentLink1Description: Manufacturer; ComponentLink1URL: http://www.johansondielectrics.com/; ComponentLink3Description: Datasheet2; Family: Capacitor
footprint C0603_L (Chip Capacitor, Body 1.6x0.8mm, Height 1.0mm, IPC High Density)
footprint C0603_M (Chip Capacitor, Body 1.6x0.8mm, Height 1.0mm, IPC Low Density)
footprint C0603_N (Chip Capacitor, Body 1.6x0.8mm, Height 1.0mm, IPC Medium Density)
pins: 1, 2

## C0603_NPO_100V_270pF
designator C?  value 270 pF  (hidden comment: C0603_NPO_100V_270pF)
Ceramic Capacitor 0603 Size; Manufacturer: JOHANSON DIELECTRICS; Manufacturer P/N: 101R14N271GV4T; Part: 270 pF, NPO, 100V, 2%tol.; ComponentLink2URL: http://www.mouser.com/ds/2/611/JDI-Surface-Mount-516221.pdf; ComponentLink2Description: Datasheet; ComponentLink1Description: Manufacturer; ComponentLink1URL: http://www.johansondielectrics.com/; ComponentLink3Description: Datasheet2; Family: Capacitor
footprint C0603_L (Chip Capacitor, Body 1.6x0.8mm, Height 1.0mm, IPC High Density)
footprint C0603_M (Chip Capacitor, Body 1.6x0.8mm, Height 1.0mm, IPC Low Density)
footprint C0603_N (Chip Capacitor, Body 1.6x0.8mm, Height 1.0mm, IPC Medium Density)
pins: 1, 2

## C0603_NPO_100V_330pF
designator C?  value 330 pF  (hidden comment: C0603_NPO_100V_330pF)
Ceramic Capacitor 0603 Size; Manufacturer: JOHANSON DIELECTRICS; Manufacturer P/N: 101R14N331GV4T; Part: 330 pF, NPO, 100V, 2%tol.; ComponentLink2URL: http://www.mouser.com/ds/2/611/JDI-Tanceram-516226.pdf; ComponentLink2Description: Datasheet; ComponentLink1Description: Manufacturer; ComponentLink1URL: http://www.johansondielectrics.com/; ComponentLink3Description: Datasheet2; Family: Capacitor
footprint C0603_L (Chip Capacitor, Body 1.6x0.8mm, Height 1.0mm, IPC High Density)
footprint C0603_M (Chip Capacitor, Body 1.6x0.8mm, Height 1.0mm, IPC Low Density)
footprint C0603_N (Chip Capacitor, Body 1.6x0.8mm, Height 1.0mm, IPC Medium Density)
pins: 1, 2

## C0603_NPO_100V_390pF
designator C?  value 390 pF  (hidden comment: C0603_NPO_100V_390pF)
Ceramic Capacitor 0603 Size; Manufacturer: JOHANSON DIELECTRICS; Manufacturer P/N: 101R14N391GV4T; Part: 390 pF, NPO, 100V, 2%tol.; ComponentLink2URL: http://www.mouser.com/ds/2/611/JDI-Tanceram-516226.pdf; ComponentLink2Description: Datasheet; ComponentLink1Description: Manufacturer; ComponentLink1URL: http://www.johansondielectrics.com/; ComponentLink3Description: Datasheet2; Family: Capacitor
footprint C0603_L (Chip Capacitor, Body 1.6x0.8mm, Height 1.0mm, IPC High Density)
footprint C0603_M (Chip Capacitor, Body 1.6x0.8mm, Height 1.0mm, IPC Low Density)
footprint C0603_N (Chip Capacitor, Body 1.6x0.8mm, Height 1.0mm, IPC Medium Density)
pins: 1, 2

## C0603_NPO_100V_430pF
designator C?  value 4300 pF  (hidden comment: C0603_NPO_100V_430pF)
Ceramic Capacitor 0603 Size; Manufacturer: Murata; Manufacturer P/N: GCM1885C2A431GA16J; Part: 430 pF, NPO, 100V, 2%tol.; ComponentLink2URL: https://ru.mouser.com/datasheet/2/281/murata_03122018_GCM_Series-1310150.pdf; ComponentLink2Description: Datasheet; ComponentLink1Description: Manufacturer; ComponentLink1URL: https://www.murata.com/; ComponentLink3Description: Datasheet2; Family: Capacitor
footprint C0603_L (Chip Capacitor, Body 1.6x0.8mm, Height 1.0mm, IPC High Density)
footprint C0603_M (Chip Capacitor, Body 1.6x0.8mm, Height 1.0mm, IPC Low Density)
footprint C0603_N (Chip Capacitor, Body 1.6x0.8mm, Height 1.0mm, IPC Medium Density)
pins: 1, 2

## C0603_NPO_100V_470pF
designator C?  value 470 pF  (hidden comment: C0603_NPO_100V_470pF)
Ceramic Capacitor 0603 Size; Manufacturer: JOHANSON DIELECTRICS; Manufacturer P/N: 101R14N471GV4T; Part: 470 pF, NPO, 100V, 2%tol.; ComponentLink2URL: http://www.mouser.com/ds/2/611/JDI-Tanceram-516226.pdf; ComponentLink2Description: Datasheet; ComponentLink1Description: Manufacturer; ComponentLink1URL: http://www.johansondielectrics.com/; ComponentLink3Description: Datasheet2; Family: Capacitor
footprint C0603_L (Chip Capacitor, Body 1.6x0.8mm, Height 1.0mm, IPC High Density)
footprint C0603_M (Chip Capacitor, Body 1.6x0.8mm, Height 1.0mm, IPC Low Density)
footprint C0603_N (Chip Capacitor, Body 1.6x0.8mm, Height 1.0mm, IPC Medium Density)
pins: 1, 2

## C0603_NPO_100V_560pF
designator C?  value 560 pF  (hidden comment: C0603_NPO_100V_560pF)
GCM1885 Ceramic Capacitor 0603 Size; Manufacturer: Murata; Manufacturer P/N: GCM1885C2A561FA16D; Part: 560 pF, NPO, 100V, 1%tol.; ComponentLink2URL: https://ru.mouser.com/datasheet/2/281/murata_03122018_GCM_Series-1310150.pdf; ComponentLink2Description: Datasheet; ComponentLink1Description: Manufacturer; ComponentLink3Description: Datasheet2; Family: Capacitor
footprint C0603_L (Chip Capacitor, Body 1.6x0.8mm, Height 1.0mm, IPC High Density)
footprint C0603_M (Chip Capacitor, Body 1.6x0.8mm, Height 1.0mm, IPC Low Density)
footprint C0603_N (Chip Capacitor, Body 1.6x0.8mm, Height 1.0mm, IPC Medium Density)
pins: 1, 2

## C0603_NPO_100V_680pF
designator C?  value 680 pF  (hidden comment: C0603_NPO_100V_680pF)
Ceramic Capacitor 0603 Size; Manufacturer: JOHANSON DIELECTRICS; Manufacturer P/N: 101R14N681GV4T; Part: 680 pF, NPO, 100V, 2%tol.; ComponentLink2URL: http://www.mouser.com/ds/2/611/JDI-Tanceram-516226.pdf; ComponentLink2Description: Datasheet; ComponentLink1Description: Manufacturer; ComponentLink1URL: http://www.johansondielectrics.com/; ComponentLink3Description: Datasheet2; Family: Capacitor
footprint C0603_L (Chip Capacitor, Body 1.6x0.8mm, Height 1.0mm, IPC High Density)
footprint C0603_M (Chip Capacitor, Body 1.6x0.8mm, Height 1.0mm, IPC Low Density)
footprint C0603_N (Chip Capacitor, Body 1.6x0.8mm, Height 1.0mm, IPC Medium Density)
pins: 1, 2

## C0603_NPO_250V_1.2pF
designator C?  value 1.2 pF  (hidden comment: C0603_NPO_250V_1.2pF)
Ceramic Capacitor 0603 Size; Manufacturer: JOHANSON DIELECTRICS; Manufacturer P/N: 251R14S1R2CV4T; Part: 1.2 pF, NPO, 250V, +/-0.25pFtol.; ComponentLink2URL: https://www2.mouser.com/datasheet/2/611/JTI-CAT-MLCC-HighQ-1101025.pdf; ComponentLink2Description: Datasheet; ComponentLink1Description: Manufacturer; ComponentLink1URL: http://www.johansondielectrics.com/; ComponentLink3Description: Datasheet2; Family: Capacitor
footprint C0603_L (Chip Capacitor, Body 1.6x0.8mm, Height 1.0mm, IPC High Density)
footprint C0603_M (Chip Capacitor, Body 1.6x0.8mm, Height 1.0mm, IPC Low Density)
footprint C0603_N (Chip Capacitor, Body 1.6x0.8mm, Height 1.0mm, IPC Medium Density)
pins: 1, 2

## C0603_NPO_250V_1.3pF
designator C?  value 1.3 pF  (hidden comment: C0603_NPO_250V_1.3pF)
Ceramic Capacitor 0603 Size 0.25pFtol.; Manufacturer: JOHANSON DIELECTRICS; Manufacturer P/N: 251R14S1R3CV4T; Part: 1.3 pF, NPO, 250V, +/-0.25pFtol.; ComponentLink2URL: https://www2.mouser.com/datasheet/2/611/JTI-CAT-MLCC-HighQ-1101025.pdf; ComponentLink2Description: Datasheet; ComponentLink1Description: Manufacturer; ComponentLink1URL: http://www.johansondielectrics.com/; ComponentLink3Description: Datasheet2; Family: Capacitor
footprint C0603_L (Chip Capacitor, Body 1.6x0.8mm, Height 1.0mm, IPC High Density)
footprint C0603_M (Chip Capacitor, Body 1.6x0.8mm, Height 1.0mm, IPC Low Density)
footprint C0603_N (Chip Capacitor, Body 1.6x0.8mm, Height 1.0mm, IPC Medium Density)
pins: 1, 2

## C0603_NPO_250V_1.6pF
designator C?  value 1.6 pF  (hidden comment: C0603_NPO_250V_1.6pF)
Ceramic Capacitor 0603 Size 0.25pFtol.; Manufacturer: JOHANSON DIELECTRICS; Manufacturer P/N: 251R14S1R6CV4T; Part: 1.6 pF, NPO, 250V, +/-0.25pFtol.; ComponentLink2URL: https://www2.mouser.com/datasheet/2/611/JTI-CAT-MLCC-HighQ-1101025.pdf; ComponentLink2Description: Datasheet; ComponentLink1Description: Manufacturer; ComponentLink1URL: http://www.johansondielectrics.com/; ComponentLink3Description: Datasheet2; Family: Capacitor
footprint C0603_L (Chip Capacitor, Body 1.6x0.8mm, Height 1.0mm, IPC High Density)
footprint C0603_M (Chip Capacitor, Body 1.6x0.8mm, Height 1.0mm, IPC Low Density)
footprint C0603_N (Chip Capacitor, Body 1.6x0.8mm, Height 1.0mm, IPC Medium Density)
pins: 1, 2

## C0603_NPO_250V_2.2pF
designator C?  value 2.2 pF  (hidden comment: C0603_NPO_250V_2.2pF)
Ceramic Capacitor 0603 Size; Manufacturer: JOHANSON DIELECTRICS; Manufacturer P/N: 251R14S2R2DV4T; Part: 2.2 pF, NPO, 250V, +/-0.5pFtol.; ComponentLink2URL: https://ru.mouser.com/datasheet/2/611/JTI-CAT-MLCC-HighQ-1101025.pdf; ComponentLink2Description: Datasheet; ComponentLink1Description: Manufacturer; ComponentLink1URL: http://www.johansondielectrics.com/; ComponentLink3Description: Datasheet2; Family: Capacitor
footprint C0603_L (Chip Capacitor, Body 1.6x0.8mm, Height 1.0mm, IPC High Density)
footprint C0603_M (Chip Capacitor, Body 1.6x0.8mm, Height 1.0mm, IPC Low Density)
footprint C0603_N (Chip Capacitor, Body 1.6x0.8mm, Height 1.0mm, IPC Medium Density)
pins: 1, 2

## C0603_NPO_250V_2.7pF
designator C?  value 2.7 pF  (hidden comment: C0603_NPO_250V_2.7pF)
Ceramic Capacitor 0603 Size 0.1pF tol.; Manufacturer: JOHANSON DIELECTRICS; Manufacturer P/N: 251R14S2R7BV4T; Part: 2.7 pF, NPO, 250V, +/-0.1pFtol.; ComponentLink2URL: https://ru.mouser.com/datasheet/2/611/JTI-CAT-MLCC-HighQ-1101025.pdf; ComponentLink2Description: Datasheet; ComponentLink1Description: Manufacturer; ComponentLink1URL: http://www.johansondielectrics.com/; ComponentLink3Description: Datasheet2; Family: Capacitor
footprint C0603_L (Chip Capacitor, Body 1.6x0.8mm, Height 1.0mm, IPC High Density)
footprint C0603_M (Chip Capacitor, Body 1.6x0.8mm, Height 1.0mm, IPC Low Density)
footprint C0603_N (Chip Capacitor, Body 1.6x0.8mm, Height 1.0mm, IPC Medium Density)
pins: 1, 2

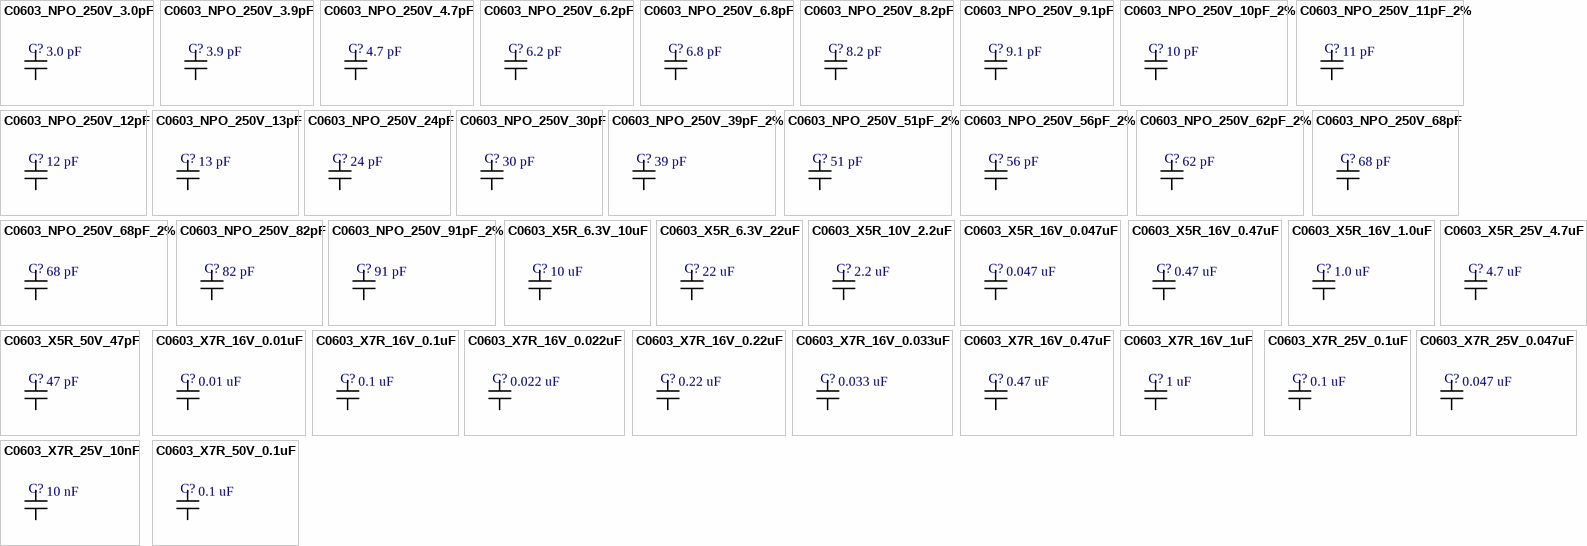
[diagram p3: symbols C0603_NPO_250V_3.0pF to C0603_X7R_50V_0.1uF]

## C0603_NPO_250V_3.0pF
designator C?  value 3.0 pF  (hidden comment: C0603_NPO_250V_3.0pF)
Ceramic Capacitor 0603 Size 0.1pF tol.; Manufacturer: JOHANSON DIELECTRICS; Manufacturer P/N: 251R14S3R0BV4T; Part: 3.0 pF, NPO, 250V, +/-0.1pFtol.; ComponentLink2URL: https://ru.mouser.com/datasheet/2/611/JTI-CAT-MLCC-HighQ-1101025.pdf; ComponentLink2Description: Datasheet; ComponentLink1Description: Manufacturer; ComponentLink1URL: http://www.johansondielectrics.com/; ComponentLink3Description: Datasheet2; Family: Capacitor
footprint C0603_L (Chip Capacitor, Body 1.6x0.8mm, Height 1.0mm, IPC High Density)
footprint C0603_M (Chip Capacitor, Body 1.6x0.8mm, Height 1.0mm, IPC Low Density)
footprint C0603_N (Chip Capacitor, Body 1.6x0.8mm, Height 1.0mm, IPC Medium Density)
pins: 1, 2

## C0603_NPO_250V_3.9pF
designator C?  value 3.9 pF  (hidden comment: C0603_NPO_250V_3.9pF)
Ceramic Capacitor 0603 Size 0.25pFtol.; Manufacturer: JOHANSON DIELECTRICS; Manufacturer P/N: 251R14S3R9CV4T; Part: 3.9 pF, NPO, 250V, +/-0.25pFtol.; ComponentLink2URL: https://www2.mouser.com/datasheet/2/611/JTI-CAT-MLCC-HighQ-1101025.pdf; ComponentLink2Description: Datasheet; ComponentLink1Description: Manufacturer; ComponentLink1URL: http://www.johansondielectrics.com/; ComponentLink3Description: Datasheet2; Family: Capacitor
footprint C0603_L (Chip Capacitor, Body 1.6x0.8mm, Height 1.0mm, IPC High Density)
footprint C0603_M (Chip Capacitor, Body 1.6x0.8mm, Height 1.0mm, IPC Low Density)
footprint C0603_N (Chip Capacitor, Body 1.6x0.8mm, Height 1.0mm, IPC Medium Density)
pins: 1, 2

## C0603_NPO_250V_4.7pF
designator C?  value 4.7 pF  (hidden comment: C0603_NPO_250V_4.7pF)
Ceramic Capacitor 0603 Size 0.25pFtol.; Manufacturer: JOHANSON DIELECTRICS; Manufacturer P/N: 251R14S4R7CV4T; Part: 4.7 pF, NPO, 250V, +/-0.25pFtol.; ComponentLink2URL: https://www2.mouser.com/datasheet/2/611/JTI-CAT-MLCC-HighQ-1101025.pdf; ComponentLink2Description: Datasheet; ComponentLink1Description: Manufacturer; ComponentLink1URL: http://www.johansondielectrics.com/; ComponentLink3Description: Datasheet2; Family: Capacitor
footprint C0603_L (Chip Capacitor, Body 1.6x0.8mm, Height 1.0mm, IPC High Density)
footprint C0603_M (Chip Capacitor, Body 1.6x0.8mm, Height 1.0mm, IPC Low Density)
footprint C0603_N (Chip Capacitor, Body 1.6x0.8mm, Height 1.0mm, IPC Medium Density)
pins: 1, 2

## C0603_NPO_250V_6.2pF
designator C?  value 6.2 pF  (hidden comment: C0603_NPO_250V_6.2pF)
Ceramic Capacitor 0603 Size 0.25pFtol.; Manufacturer: JOHANSON DIELECTRICS; Manufacturer P/N: 251R14S6R2CV4T; Part: 6.2 pF, NPO, 250V, +/-0.25pFtol.; ComponentLink2URL: https://www2.mouser.com/datasheet/2/611/JTI-CAT-MLCC-HighQ-1101025.pdf; ComponentLink2Description: Datasheet; ComponentLink1Description: Manufacturer; ComponentLink1URL: http://www.johansondielectrics.com/; ComponentLink3Description: Datasheet2; Family: Capacitor
footprint C0603_L (Chip Capacitor, Body 1.6x0.8mm, Height 1.0mm, IPC High Density)
footprint C0603_M (Chip Capacitor, Body 1.6x0.8mm, Height 1.0mm, IPC Low Density)
footprint C0603_N (Chip Capacitor, Body 1.6x0.8mm, Height 1.0mm, IPC Medium Density)
pins: 1, 2

## C0603_NPO_250V_6.8pF
designator C?  value 6.8 pF  (hidden comment: C0603_NPO_250V_6.8pF)
Ceramic Capacitor 0603 Size; Manufacturer: JOHANSON DIELECTRICS; Manufacturer P/N: 251R14S6R8DV4T; Part: 6.8 pF, NPO, 250V, +/-0.5pFtol.; ComponentLink2URL: https://www2.mouser.com/datasheet/2/611/JTI-CAT-MLCC-HighQ-1101025.pdf; ComponentLink2Description: Datasheet; ComponentLink1Description: Manufacturer; ComponentLink1URL: http://www.johansondielectrics.com/; ComponentLink3Description: Datasheet2; Family: Capacitor
footprint C0603_L (Chip Capacitor, Body 1.6x0.8mm, Height 1.0mm, IPC High Density)
footprint C0603_M (Chip Capacitor, Body 1.6x0.8mm, Height 1.0mm, IPC Low Density)
footprint C0603_N (Chip Capacitor, Body 1.6x0.8mm, Height 1.0mm, IPC Medium Density)
pins: 1, 2

## C0603_NPO_250V_8.2pF
designator C?  value 8.2 pF  (hidden comment: C0603_NPO_250V_8.2pF)
Ceramic Capacitor 0603 Size; Manufacturer: JOHANSON DIELECTRICS; Manufacturer P/N: 251R14S8R2DV4T; Part: 8.2 pF, NPO, 250V, +/-0.5pFtol.; ComponentLink2URL: https://www2.mouser.com/datasheet/2/611/JTI-CAT-MLCC-HighQ-1101025.pdf; ComponentLink2Description: Datasheet; ComponentLink1Description: Manufacturer; ComponentLink1URL: http://www.johansondielectrics.com/; ComponentLink3Description: Datasheet2; Family: Capacitor
footprint C0603_L (Chip Capacitor, Body 1.6x0.8mm, Height 1.0mm, IPC High Density)
footprint C0603_M (Chip Capacitor, Body 1.6x0.8mm, Height 1.0mm, IPC Low Density)
footprint C0603_N (Chip Capacitor, Body 1.6x0.8mm, Height 1.0mm, IPC Medium Density)
pins: 1, 2

## C0603_NPO_250V_9.1pF
designator C?  value 9.1 pF  (hidden comment: C0603_NPO_250V_9.1pF)
Ceramic Capacitor 0603 Size; Manufacturer: JOHANSON DIELECTRICS; Manufacturer P/N: 251R14S9R1DV4T; Part: 9.1 pF, NPO, 250V, +/-0.5pFtol.; ComponentLink2URL: https://www2.mouser.com/datasheet/2/611/JTI-CAT-MLCC-HighQ-1101025.pdf; ComponentLink2Description: Datasheet; ComponentLink1Description: Manufacturer; ComponentLink1URL: http://www.johansondielectrics.com/; ComponentLink3Description: Datasheet2; Family: Capacitor
footprint C0603_L (Chip Capacitor, Body 1.6x0.8mm, Height 1.0mm, IPC High Density)
footprint C0603_M (Chip Capacitor, Body 1.6x0.8mm, Height 1.0mm, IPC Low Density)
footprint C0603_N (Chip Capacitor, Body 1.6x0.8mm, Height 1.0mm, IPC Medium Density)
pins: 1, 2

## C0603_NPO_250V_10pF_2%
designator C?  value 10 pF  (hidden comment: C0603_NPO_250V_10pF_2%)
Ceramic Capacitor 0603 Size 2%; Manufacturer: JOHANSON DIELECTRICS; Manufacturer P/N: 251R14S100GV4T; Part: 10 pF, NPO, 250V, 2% tol.; ComponentLink2URL: https://www2.mouser.com/datasheet/2/611/JTI-CAT-MLCC-HighQ-1101025.pdf; ComponentLink2Description: Datasheet; ComponentLink1Description: Manufacturer; ComponentLink1URL: http://www.johansondielectrics.com/; ComponentLink3Description: Datasheet2; Family: Capacitor
footprint C0603_L (Chip Capacitor, Body 1.6x0.8mm, Height 1.0mm, IPC High Density)
footprint C0603_M (Chip Capacitor, Body 1.6x0.8mm, Height 1.0mm, IPC Low Density)
footprint C0603_N (Chip Capacitor, Body 1.6x0.8mm, Height 1.0mm, IPC Medium Density)
pins: 1, 2

## C0603_NPO_250V_11pF_2%
designator C?  value 11 pF  (hidden comment: C0603_NPO_250V_11pF_2%)
Ceramic Capacitor 0603 Size 2%; Manufacturer: JOHANSON DIELECTRICS; Manufacturer P/N: 251R14S110GV4T; Part: 11 pF, NPO, 250V, 2% tol.; ComponentLink2URL: https://www2.mouser.com/datasheet/2/611/JTI-CAT-MLCC-HighQ-1101025.pdf; ComponentLink2Description: Datasheet; ComponentLink1Description: Manufacturer; ComponentLink1URL: http://www.johansondielectrics.com/; ComponentLink3Description: Datasheet2; Family: Capacitor
footprint C0603_L (Chip Capacitor, Body 1.6x0.8mm, Height 1.0mm, IPC High Density)
footprint C0603_M (Chip Capacitor, Body 1.6x0.8mm, Height 1.0mm, IPC Low Density)
footprint C0603_N (Chip Capacitor, Body 1.6x0.8mm, Height 1.0mm, IPC Medium Density)
pins: 1, 2

## C0603_NPO_250V_12pF
designator C?  value 12 pF  (hidden comment: C0603_NPO_250V_12pF)
Ceramic Capacitor 0603 Size; Manufacturer: JOHANSON DIELECTRICS; Manufacturer P/N: 251R14S120GV4T; Part: 12 pF, NPO, 250V, 2%tol.; ComponentLink2URL: http://www.mouser.com/ds/2/611/JDI-Tanceram-516226.pdf; ComponentLink2Description: Datasheet; ComponentLink1Description: Manufacturer; ComponentLink1URL: http://www.johansondielectrics.com/; ComponentLink3Description: Datasheet2; Family: Capacitor
footprint C0603_L (Chip Capacitor, Body 1.6x0.8mm, Height 1.0mm, IPC High Density)
footprint C0603_M (Chip Capacitor, Body 1.6x0.8mm, Height 1.0mm, IPC Low Density)
footprint C0603_N (Chip Capacitor, Body 1.6x0.8mm, Height 1.0mm, IPC Medium Density)
pins: 1, 2